# EAGLE library part SI5317 (library ic-Silicon)
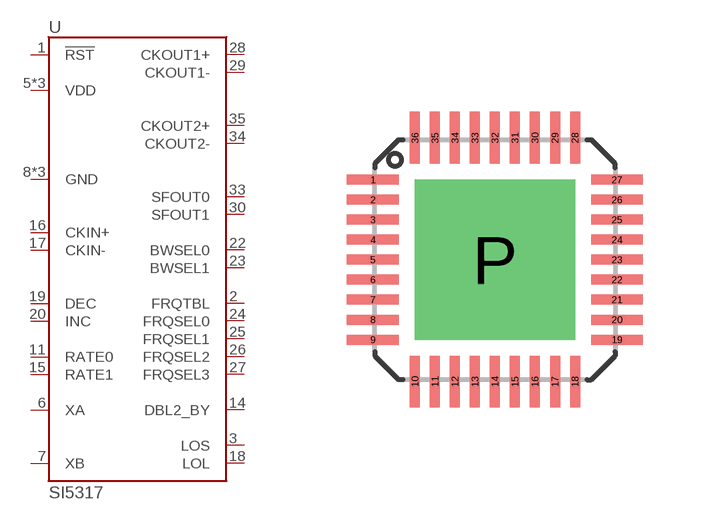
[diagram p2: symbol with the pads of CSP32-0.5-PAD; footprint CSP32-0.5-PAD]

Designator prefix U

## SI5317  [CSP32-0.5-PAD]
1  !RST
2  FRQTBL
3  LOS
5  VDD
6  XA
7  XB
8  GND
10  VDD
11  RATE0
14  DBL2_BY
15  RATE1
16  CKIN+
17  CKIN-
18  LOL
19  DEC
20  INC
22  BWSEL0
23  BWSEL1
24  FRQSEL0
25  FRQSEL1
26  FRQSEL2
27  FRQSEL3
28  CKOUT1+
29  CKOUT1-
30  SFOUT1
31  GND
32  VDD
33  SFOUT0
34  CKOUT2-
35  CKOUT2+
P  GND

## Footprint CSP32-0.5-PAD (pad centres in mm)
smd 1.3 x 0.25: 1 -3.05,2; 2 -3.05,1.5; 3 -3.05,1; 4 -3.05,0.5; 5 -3.05,0; 6 -3.05,-0.5; 7 -3.05,-1; 8 -3.05,-1.5; 9 -3.05,-2; 19 3.05,-2; 20 3.05,-1.5; 21 3.05,-1; 22 3.05,-0.5; 23 3.05,0; 24 3.05,0.5; 25 3.05,1; 26 3.05,1.5; 27 3.05,2
smd 0.25 x 1.3: 10 -2,-3.05; 11 -1.5,-3.05; 12 -1,-3.05; 13 -0.5,-3.05; 14 0,-3.05; 15 0.5,-3.05; 16 1,-3.05; 17 1.5,-3.05; 18 2,-3.05; 28 2,3.05; 29 1.5,3.05; 30 1,3.05; 31 0.5,3.05; 32 0,3.05; 33 -0.5,3.05; 34 -1,3.05; 35 -1.5,3.05; 36 -2,3.05
drill 2.8 pad 4 square: P 0,0